# Altium footprint library IMX6.PcbLib: 43 footprints (part 2 of 3)
Each footprint in its own frame and in the unit in brackets; x right, y up, seen from the top. Pads: shape width x height; smd on the part's side, far side on the other; paste and mask are expansions set on the pad; w line width, h text height; cw(c..) or ccw(c..) is an arc to the next point about the centre after c.
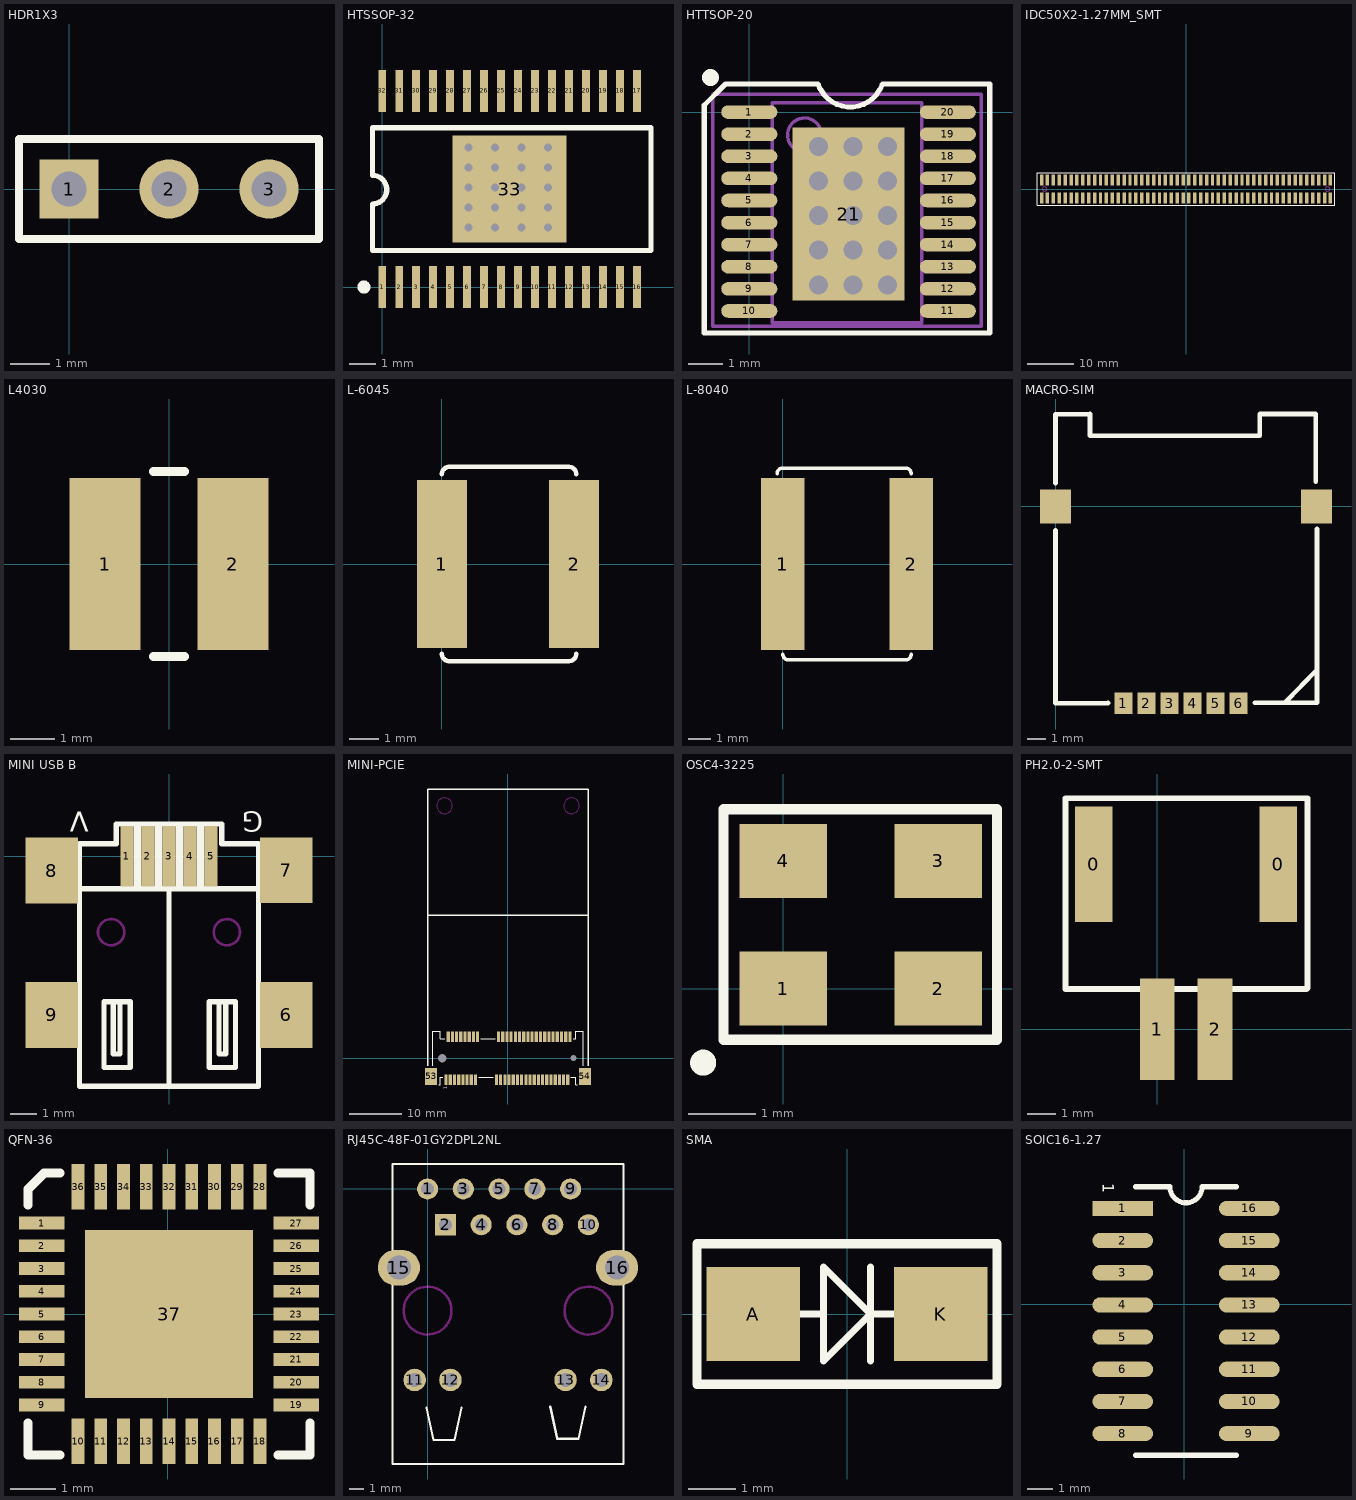
[diagram p1: the footprints below, top view; thin cyan lines are the x and y axes]

## HDR1X3 [mm]
pads (3):
  rect 1.5x1.5 hole 0.9: 1(0,0)
  round 1.5 hole 0.9: 2(2.54,0) 3(5.08,0)
Top Overlay:
  lines w0.2: -1.27,-1.27 6.35,-1.27 6.35,1.27 -1.27,1.27 -1.27,-1.27

## HTSSOP-32 [mm]
pads (33):
  rect 0.3x1.6 smd: 1(0,0) 2(0.65,0) 3(1.3,0) 4(1.95,0) 5(2.6,0) 6(3.25,0) 7(3.9,0) 8(4.55,0) 9(5.2,0) 10(5.85,0) 11(6.5,0) 12(7.15,0) 13(7.8,0) 14(8.45,0) 15(9.1,0) 16(9.75,0) 17(9.75,7.5) 18(9.1,7.5) 19(8.45,7.5) 20(7.8,7.5) 21(7.15,7.5) 22(6.5,7.5) 23(5.85,7.5) 24(5.2,7.5) 25(4.55,7.5) 26(3.9,7.5) 27(3.25,7.5) 28(2.6,7.5) 29(1.95,7.5) 30(1.3,7.5) 31(0.65,7.5) 32(0,7.5)
  rect 4.36x4.11 smd: 33(4.875,3.75)
via 6.35,2.286 diameter 0.508 hole 0.305
via 6.35,3.048 diameter 0.508 hole 0.305
via 6.35,3.81 diameter 0.508 hole 0.305
via 6.35,4.572 diameter 0.508 hole 0.305
via 6.35,5.334 diameter 0.508 hole 0.305
via 5.334,5.334 diameter 0.508 hole 0.305
via 5.334,4.572 diameter 0.508 hole 0.305
via 5.334,3.81 diameter 0.508 hole 0.305
via 5.334,3.048 diameter 0.508 hole 0.305
via 5.334,2.286 diameter 0.508 hole 0.305
via 4.318,2.286 diameter 0.508 hole 0.305
via 4.318,3.048 diameter 0.508 hole 0.305
via 4.318,3.81 diameter 0.508 hole 0.305
via 4.318,4.572 diameter 0.508 hole 0.305
via 4.318,5.334 diameter 0.508 hole 0.305
via 3.302,2.286 diameter 0.508 hole 0.305
via 3.302,3.048 diameter 0.508 hole 0.305
via 3.302,3.81 diameter 0.508 hole 0.305
via 3.302,4.572 diameter 0.508 hole 0.305
via 3.302,5.334 diameter 0.508 hole 0.305
Top Overlay:
  circle w0.25: c-0.7,0 r0.125
  lines w0.2: -0.375,1.397 10.287,1.397 10.287,6.096 -0.375,6.096 -0.375,4.275 cw(c-0.375,3.725) -0.375,3.175 -0.375,1.397

## HTTSOP-20 [mm]
pads (21):
  oval 1.65x0.4 smd: 1(0,0) 2(0,-0.65) 3(0,-1.3) 4(0,-1.95) 5(0,-2.6) 6(0,-3.25) 7(0,-3.9) 8(0,-4.55) 9(0,-5.2) 10(0,-5.85) 11(5.842,-5.85) 12(5.842,-5.2) 13(5.842,-4.55) 14(5.842,-3.9) 15(5.842,-3.25) 16(5.842,-2.6) 17(5.842,-1.95) 18(5.842,-1.3) 19(5.842,-0.65) 20(5.842,0)
  rect 3.3x5.08 smd: 21(2.921,-3)
via 4.064,-5.08 diameter 0.762 hole 0.559
via 3.048,-5.08 diameter 0.762 hole 0.559
via 2.032,-5.08 diameter 0.762 hole 0.559
via 4.064,-4.064 diameter 0.762 hole 0.559
via 3.048,-4.064 diameter 0.762 hole 0.559
via 2.032,-4.064 diameter 0.762 hole 0.559
via 4.064,-3.048 diameter 0.762 hole 0.559
via 3.048,-3.048 diameter 0.762 hole 0.559
via 2.032,-3.048 diameter 0.762 hole 0.559
via 4.064,-2.032 diameter 0.762 hole 0.559
via 3.048,-2.032 diameter 0.762 hole 0.559
via 2.032,-2.032 diameter 0.762 hole 0.559
via 4.064,-1.016 diameter 0.762 hole 0.559
via 3.048,-1.016 diameter 0.762 hole 0.559
via 2.032,-1.016 diameter 0.762 hole 0.559
Top Overlay:
  circle w0.25: c-1.141,1.016 r0.125
  lines w0.152: 2.025,0.825 -0.699,0.825 -1.325,0.199 -1.325,-6.5 7.075,-6.5 7.075,0.825 3.925,0.825 ; 2.03,0.809 ccw(c2.97,1.15) 3.911,0.812
Mechanical 13:
  circle w0.1: c1.625,-0.675 r0.5
  lines w0.1: 0.675,-6.2 5.075,-6.2 5.075,0.275 0.675,0.275 0.675,-6.2
Mechanical 15:
  lines w0.1: 2.375,-2.275 3.375,-2.275 ; 2.875,-2.775 2.875,-1.775 ; -1.075,-6.3 6.825,-6.3 6.825,0.525 -1.075,0.525 -1.075,-6.3
3D body: height 2.65, standoff 0.1, extent 0.635,-6.2 5.08,0.275

## IDC50X2-1.27MM_SMT [mm]
pads (100):
  rect 0.74x2.4 smd: 1(-31.115,-1.95) 2(-31.115,1.95) 3(-29.845,-1.95) 4(-29.845,1.95) 5(-28.575,-1.95) 6(-28.575,1.95) 7(-27.305,-1.95) 8(-27.305,1.95) 9(-26.035,-1.95) 10(-26.035,1.95) 11(-24.765,-1.95) 12(-24.765,1.95) 13(-23.495,-1.95) 14(-23.495,1.95) 15(-22.225,-1.95) 16(-22.225,1.95) 17(-20.955,-1.95) 18(-20.955,1.95) 19(-19.685,-1.95) 20(-19.685,1.95) 21(-18.415,-1.95) 22(-18.415,1.95) 23(-17.145,-1.95) 24(-17.145,1.95) 25(-15.875,-1.95) 26(-15.875,1.95) 27(-14.605,-1.95) 28(-14.605,1.95) 29(-13.335,-1.95) 30(-13.335,1.95) 31(-12.065,-1.95) 32(-12.065,1.95) 33(-10.795,-1.95) 34(-10.795,1.95) 35(-9.525,-1.95) 36(-9.525,1.95) 37(-8.255,-1.95) 38(-8.255,1.95) 39(-6.985,-1.95) 40(-6.985,1.95) 41(-5.715,-1.95) 42(-5.715,1.95) 43(-4.445,-1.95) 44(-4.445,1.95) 45(-3.175,-1.95) 46(-3.175,1.95) 47(-1.905,-1.95) 48(-1.905,1.95) 49(-0.635,-1.95) 50(-0.635,1.95) 51(0.635,-1.95) 52(0.635,1.95) 53(1.905,-1.95) 54(1.905,1.95) 55(3.175,-1.95) 56(3.175,1.95) 57(4.445,-1.95) 58(4.445,1.95) 59(5.715,-1.95) 60(5.715,1.95) 61(6.985,-1.95) 62(6.985,1.95) 63(8.255,-1.95) 64(8.255,1.95) 65(9.525,-1.95) 66(9.525,1.95) 67(10.795,-1.95) 68(10.795,1.95) 69(12.065,-1.95) 70(12.065,1.95) 71(13.335,-1.95) 72(13.335,1.95) 73(14.605,-1.95) 74(14.605,1.95) 75(15.875,-1.95) 76(15.875,1.95) 77(17.145,-1.95) 78(17.145,1.95) 79(18.415,-1.95) 80(18.415,1.95) 81(19.685,-1.95) 82(19.685,1.95) 83(20.955,-1.95) 84(20.955,1.95) 85(22.225,-1.95) 86(22.225,1.95) 87(23.495,-1.95) 88(23.495,1.95) 89(24.765,-1.95) 90(24.765,1.95) 91(26.035,-1.95) 92(26.035,1.95) 93(27.305,-1.95) 94(27.305,1.95) 95(28.575,-1.95) 96(28.575,1.95) 97(29.845,-1.95) 98(29.845,1.95) 99(31.115,-1.95) 100(31.115,1.95)
Top Overlay:
  lines w0.2: -32,-3.5 32,-3.5 32,3.5 -32,3.5 -32,-3.5
Keep-Out Layer:
  circle w0.203: c-30.48,0 r0.5
  circle w0.203: c30.48,0 r0.5

## L4030 [mm]
pads (2):
  rect 1.6x3.9 smd: 1(-1.45,0) 2(1.45,0)
Top Overlay:
  lines w0.2: -0.35,-2.1 0.35,-2.1 ; -0.35,2.1 0.35,2.1

## L-6045 [mm]
pads (2):
  rect 1.7x5.7 smd: 1(0,0) 2(4.5,0)
Top Overlay:
  lines w0.152: 0,-3.048 ccw(c0.254,-3.048) 0.254,-3.302 4.331,-3.302 ccw(c4.325,-3.055) 4.572,-3.048 ; 0,3.048 cw(c0.254,3.048) 0.254,3.302 4.331,3.302 cw(c4.325,3.055) 4.572,3.048

## L-8040 [mm]
pads (2):
  rect 1.9x7.5 smd: 1(0,0) 2(5.6,0)
Top Overlay:
  lines w0.152: -0.254,3.937 cw(c0,3.937) 0,4.191 5.359,4.191 cw(c5.353,3.944) 5.6,3.937 ; 0,-3.937 ccw(c0.254,-3.937) 0.254,-4.191 5.359,-4.191 ccw(c5.353,-3.944) 5.6,-3.937

## MACRO-SIM [mm]
pads (8):
  rect 1x1.2 smd: 1(3.75,-10.86) 2(5.02,-10.86) 3(6.29,-10.86) 4(7.56,-10.86) 5(8.83,-10.86) 6(10.1,-10.86)
  rect 1.7x1.9 smd: ""(0,-0.01) ""(14.4,-0.01)
Top Overlay:
  lines w0.254: 0,-1.331 0,-10.86 2.896,-10.856 ; 0,1.285 0,5.09 1.905,5.095 1.905,3.902 11.278,3.902 11.278,5.095 14.351,5.095 14.351,1.362 ; 10.998,-10.83 14.427,-10.83 14.427,-1.229 ; 12.649,-10.83 14.427,-9.027

## MINI USB B [mm]
pads (9):
  rect 0.5x2.3 smd: 1(-1.6,0) 2(-0.8,0) 3(0,0) 4(0.8,0) 5(1.6,0)
  rect 2x2.5 smd: 6(4.45,-6.038) 7(4.45,-0.538) 8(-4.45,-0.554) 9(-4.45,-6.038)
Top Overlay:
  rectangle: -0.559,-1.143 -0.254,1.143
  rectangle: -1.346,-1.143 -1.041,1.143
  rectangle: 0.254,-1.168 0.559,1.118
  rectangle: 1.041,-1.143 1.346,1.143
  lines w0.2: -3.4,-1.241 3.4,-1.241 ; -2.114,-5.538 -2.114,-7.523 -1.91,-7.523 -1.86,-7.523 -1.86,-5.538 ; 0,-8.743 0,-1.245 ; 1.9,-5.538 1.9,-7.523 2.154,-7.523 2.154,-5.538 ; -3.4,-8.743 -3.4,0.462 -2.611,0.462 -2,0.462 -2,1.219 2,1.219 2,0.462 3.4,0.462 3.4,-8.743 -3.4,-8.743 ; -2.474,-8.037 -2.474,-5.538 -1.474,-5.538 -1.474,-8.037 -2.474,-8.037 ; 1.526,-8.037 2.526,-8.037 2.526,-5.538 1.526,-5.538 1.526,-8.037
  text "G" at 3.581,1.676 h0.76
  text "V" at -3.048,1.676 h0.76
Keep-Out Layer:
  circle w0.1: c2.2,-2.893 r0.5
  circle w0.1: c-2.2,-2.893 r0.5
3D body "miniUSB-DIP.STEP": height 3.95, standoff -1, extent -5.324,-8.77 5.376,0.43

## MINI-PCIE [mm]
pads (56):
  rect 0.6x2 smd: 1(-11.8,-4.1) 2(-11.4,4.1) 3(-11,-4.1) 4(-10.6,4.1) 5(-10.2,-4.1) 6(-9.8,4.1) 7(-9.4,-4.1) 8(-9,4.1) 9(-8.6,-4.1) 10(-8.2,4.1) 11(-7.8,-4.1) 12(-7.4,4.1) 13(-7,-4.1) 14(-6.6,4.1) 15(-6.2,-4.1) 16(-5.8,4.1) 17(-2.2,-4.1) 18(-1.8,4.1) 19(-1.4,-4.1) 20(-1,4.1) 21(-0.6,-4.1) 22(-0.2,4.1) 23(0.2,-4.1) 24(0.6,4.1) 25(1,-4.1) 26(1.4,4.1) 27(1.8,-4.1) 28(2.2,4.1) 29(2.6,-4.1) 30(3,4.1) 31(3.4,-4.1) 32(3.8,4.1) 33(4.2,-4.1) 34(4.6,4.1) 35(5,-4.1) 36(5.4,4.1) 37(5.8,-4.1) 38(6.2,4.1) 39(6.6,-4.1) 40(7,4.1) 41(7.4,-4.1) 42(7.8,4.1) 43(8.2,-4.1) 44(8.6,4.1) 45(9,-4.1) 46(9.4,4.1) 47(9.8,-4.1) 48(10.2,4.1) 49(10.6,-4.1) 50(11,4.1) 51(11.4,-4.1) 52(11.8,4.1)
  rect 2.3x3.2 smd: 53(-14.65,-3.5) 54(14.65,-3.5)
  rrect70% 0x0 hole 1.6: 55(-12.5,0)
  rrect70% 0x0 hole 1.1: 56(12.5,0)
Top Overlay:
  lines w0.2: -14.3,-1.5 -14.3,5.1 -12.9,5.1 -12.9,3.7 -12.1,3.7 ; -13.2,-5.1 -12.9,-5.1 -12.9,-3.7 -12.4,-3.7 ; -5.6,-3.7 -2.8,-3.7 ; -5.2,3.7 -2.4,3.7 ; 12,-3.7 12.9,-3.7 12.9,-5.1 13.2,-5.1 ; 12.4,3.7 12.9,3.7 12.9,5.1 14.3,5.1 14.3,-1.5
  lines w0.254: -15.3,-1.5 -15.3,51.3 -14.8,51.3 15.3,51.3 15.3,-1.5 ; -15.3,27.2 15.3,27.2
  text "1" at -11.3,-5.9 h1.02
Keep-Out Layer:
  circle w0.203: c12.103,48.103 r1.5
  circle w0.203: c-12.097,48.103 r1.5

## OSC4-3225 [mm]
pads (4):
  rect 1.3x1.1 smd: 1(0,0) 2(2.3,0) 3(2.3,1.9) 4(0,1.9)
Top Overlay:
  circle w0.203: c-1.192,-1.101 r0.092
  lines w0.152: -0.889,-0.762 3.175,-0.762 3.175,2.667 -0.889,2.667 -0.889,-0.762

## PH2.0-2-SMT [mm]
pads (4):
  rect 1.3x4 smd: 0(-2.2,5.715) 0(4.191,5.715)
  rect 1.2x3.5 smd: 1(0,0) 2(2,0)
Top Overlay:
  lines w0.203: -1.27,8.001 3.27,8.001 5.207,8.001 5.207,1.429 5.175,1.397 -3.175,1.397 -3.175,8.001 -1.143,8.001

## QFN-36 [mm]
pads (37):
  rect 1x0.28 smd: 1(-2.777,2) 2(-2.777,1.5) 3(-2.777,1) 4(-2.777,0.5) 5(-2.777,0) 6(-2.777,-0.5) 7(-2.777,-1) 8(-2.777,-1.5) 9(-2.777,-2) 19(2.823,-2) 20(2.823,-1.5) 21(2.823,-1) 22(2.823,-0.5) 23(2.823,0) 24(2.823,0.5) 25(2.823,1) 26(2.823,1.5) 27(2.823,2)
  rect 0.28x1 smd: 10(-1.977,-2.8) 11(-1.477,-2.8) 12(-0.977,-2.8) 13(-0.477,-2.8) 14(0.023,-2.8) 15(0.523,-2.8) 16(1.023,-2.8) 17(1.523,-2.8) 18(2.023,-2.8) 28(2.023,2.8) 29(1.523,2.8) 30(1.023,2.8) 31(0.523,2.8) 32(0.023,2.8) 33(-0.477,2.8) 34(-0.977,2.8) 35(-1.477,2.8) 36(-1.977,2.8)
  rect 3.7x3.7 smd: 37(0.023,0)
Top Overlay:
  lines w0.2: -3.077,-2.4 -3.077,-3.1 -2.377,-3.1 ; -3.077,2.4 -3.077,2.75 -2.727,3.1 -2.377,3.1 ; 2.423,-3.1 3.123,-3.1 3.123,-2.4 ; 2.423,3.1 3.123,3.1 3.123,2.4

## RJ45C-48F-01GY2DPL2NL [mm]
pads (16):
  round 1.5 hole 0.9: 1(0,0) 3(2.54,0) 4(3.81,-2.54) 5(5.08,0) 6(6.35,-2.54) 7(7.62,0) 8(8.89,-2.54) 9(10.16,0) 10(11.43,-2.54)
  rect 1.5x1.5 hole 0.9: 2(1.27,-2.54)
  round 1.6 hole 1: 11(-0.915,-13.565) 12(1.625,-13.565) 13(9.805,-13.565) 14(12.345,-13.565)
  oval 3x2.54 hole 1.7: 15(-2.035,-5.59) 16(13.465,-5.59)
Top Overlay:
  lines w0.152: -0.085,-15.54 0.415,-17.84 1.915,-17.84 2.415,-15.54 ; 8.715,-15.44 9.215,-17.74 10.715,-17.74 11.215,-15.44 ; -2.485,-19.537 -2.485,1.774 13.915,1.774 13.915,-19.537 -2.485,-19.537
Keep-Out Layer:
  circle w0.178: c0,-8.64 r1.7
  circle w0.178: c11.43,-8.64 r1.7

## SMA [mm]
pads (2):
  rect 2x2 smd: A(-2,0) K(2,0)
Top Overlay:
  lines w0.15: -1,0 -0.5,0 ; 0.5,-1 0.5,1 ; 1,0 0.5,0 ; 0.5,0 -0.5,1 -0.5,-1 0.5,0
  lines w0.2: -3.2,-1.5 -3.2,1.5 3.2,1.5 3.2,-1.5 -3.2,-1.5

## SOIC16-1.27 [mm]
pads (16):
  rect 2.4x0.6 smd: 1(-2.432,3.787)
  oval 2.4x0.6 smd: 2(-2.432,2.517) 3(-2.432,1.247) 4(-2.432,-0.023) 5(-2.432,-1.293) 6(-2.432,-2.563) 7(-2.432,-3.833) 8(-2.432,-5.103) 9(2.568,-5.103) 10(2.568,-3.833) 11(2.568,-2.563) 12(2.568,-1.293) 13(2.568,-0.023) 14(2.568,1.247) 15(2.568,2.517) 16(2.568,3.787)
Top Overlay:
  lines w0.2: -1.932,-5.958 2.068,-5.958 ; -1.932,4.642 -0.567,4.642 ccw(c0.068,4.642) 0.703,4.642 2.068,4.642
  text "1" at -3.372,4.777 h0.76